# Altium footprint library Footprints.PcbLib: 39 footprints (part 1 of 3)
Each footprint in its own frame and in the unit in brackets; x right, y up, seen from the top. Pads: shape width x height; smd on the part's side, far side on the other; paste and mask are expansions set on the pad; w line width, h text height; cw(c..) or ccw(c..) is an arc to the next point about the centre after c.
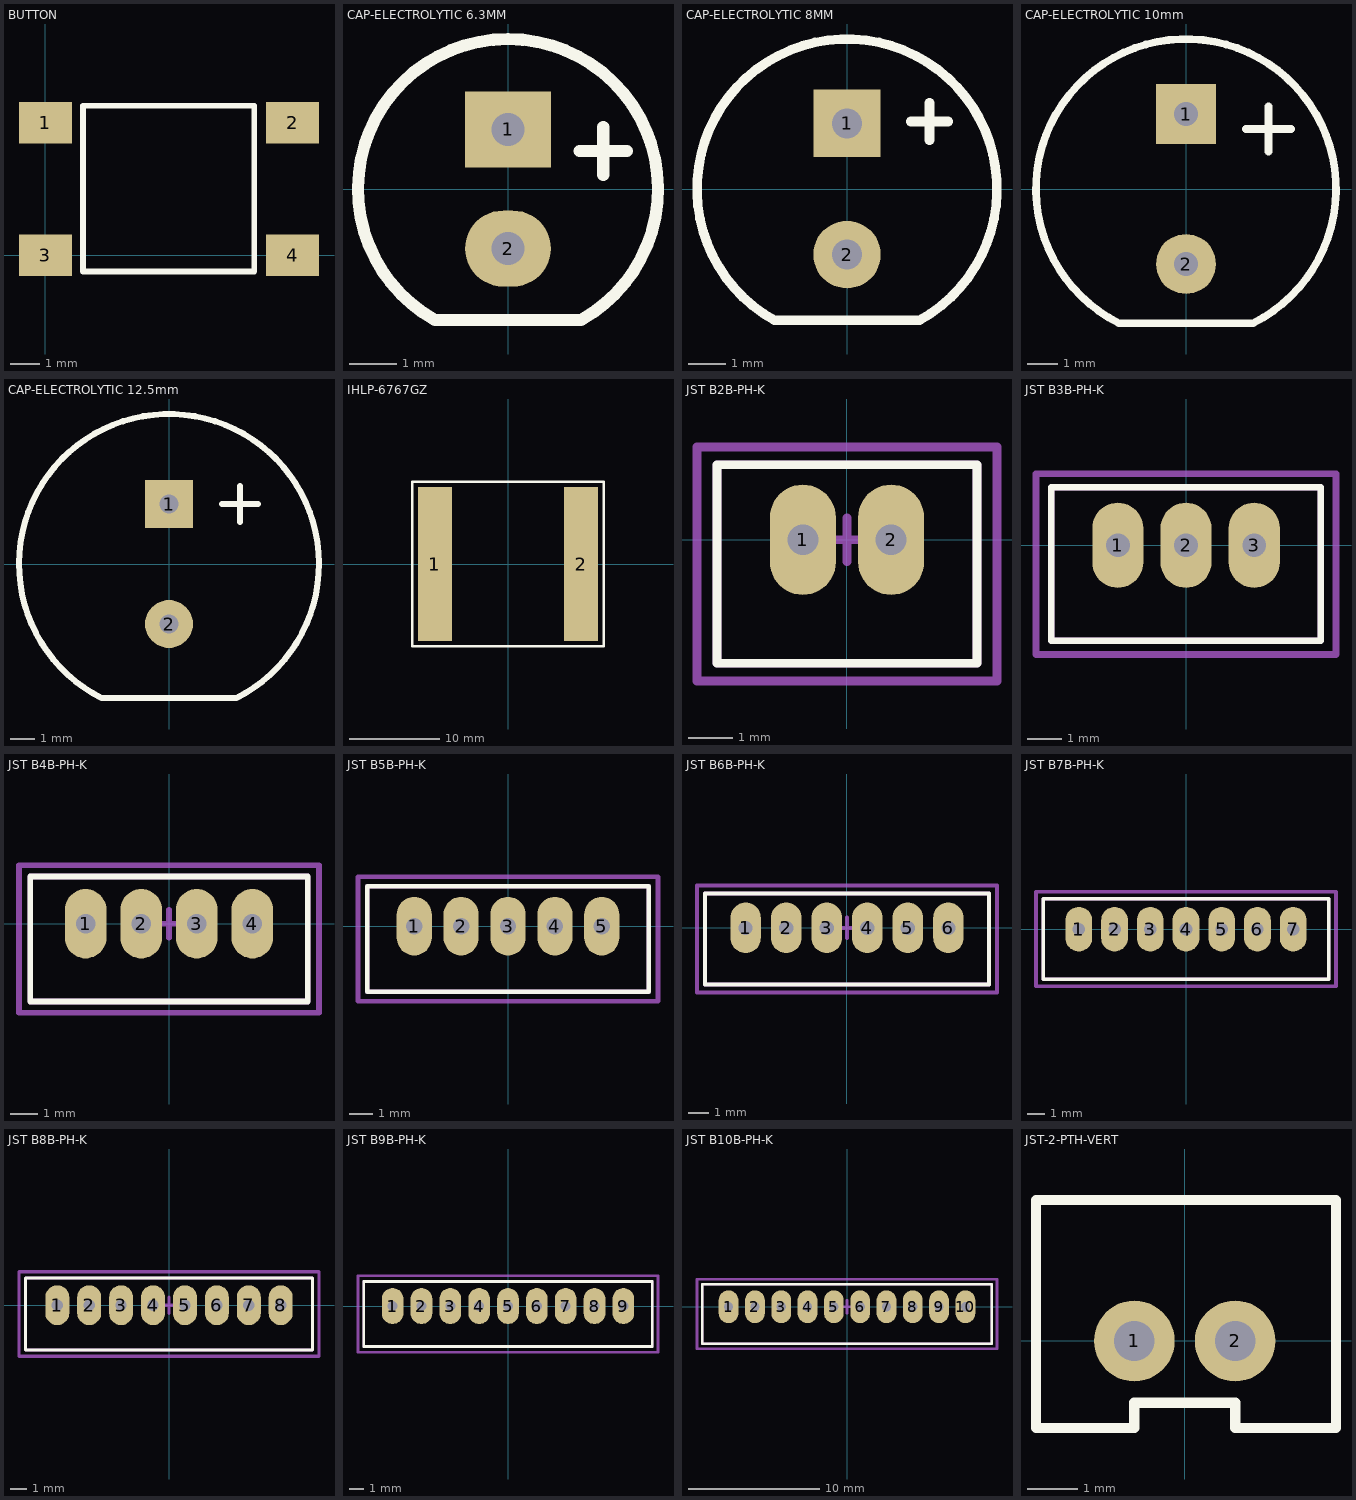
[diagram p0: the footprints below, top view; thin cyan lines are the x and y axes]

## BUTTON [mm]
pads (4):
  rect 1.8x1.4 smd: 1(0,4.5) 2(8.4,4.5) 3(0,0) 4(8.4,0)
Top Overlay:
  lines w0.2: 1.27,-0.55 1.27,5.08 7.1,5.08 7.1,-0.55 1.27,-0.55

## CAP-ELECTROLYTIC 6.3MM [mm]
height 10
pads (2):
  rect 1.8x1.6 hole 0.7: 1(0,1.25)
  oval 1.8x1.6 hole 0.7: 2(0,-1.25)
Top Overlay:
  lines w0.254: 1.5,0.8 2.5,0.8 ; 2,0.3 2,1.3 ; -1.53,-2.754 cw(c0,0) 1.53,-2.754 -1.53,-2.754

## CAP-ELECTROLYTIC 8MM [mm]
height 11.5
pads (2):
  rect 1.8x1.8 hole 0.8: 1(0,1.75)
  round 1.8 hole 0.8: 2(0,-1.75)
Top Overlay:
  lines w0.254: 1.7,1.8 2.7,1.8 ; 2.2,1.3 2.2,2.3 ; -1.943,-3.497 cw(c0,0) 1.943,-3.497 -1.943,-3.497

## CAP-ELECTROLYTIC 10mm [mm]
height 20
pads (2):
  rect 2x2 hole 0.8: 1(0,2.5)
  round 2 hole 0.8: 2(0,-2.5)
Top Overlay:
  lines w0.254: 2,2 3.5,2 ; 2.75,1.25 2.75,2.75 ; -2.236,-4.472 cw(c0,0) 2.236,-4.472 -2.236,-4.472

## CAP-ELECTROLYTIC 12.5mm [mm]
height 20
pads (2):
  rect 2x2 hole 0.8: 1(0,2.5)
  round 2 hole 0.8: 2(0,-2.5)
Top Overlay:
  lines w0.254: 2.2,2.5 3.7,2.5 ; 2.95,1.75 2.95,3.25 ; -2.795,-5.59 cw(c0,0) 2.795,-5.59 -2.795,-5.59

## IHLP-6767GZ [mil]
height 275.59
pads (2):
  rect 150x675 smd: 1(-320,0) 2(320,0)
Top Overlay:
  lines w10: -420,-360 420,-360 420,360 -420,360 -420,167.5 -420,-360
3D body: height 196.85, standoff 0, extent -330.71,-330.71 330.71,330.71

## JST B2B-PH-K [mm]
height 6
pads (2):
  oval 1.5x2.5 hole 0.7: 1(-1,0) 2(1,0)
Top Overlay:
  lines w0.2: -2.95,-2.8 2.95,-2.8 2.95,1.7 -2.95,1.7 -2.95,-2.8
Bottom Overlay:
  circle w0.254: c-2.1,1.1 r0.141
Mechanical 13:
  lines w0.2: -2.95,-2.8 -2.95,1.7 2.95,1.7 2.95,-2.8 -2.95,-2.8
Mechanical 15:
  lines w0.2: -0.5,0 0.5,0 ; 0,-0.5 0,0.5 ; -3.4,-3.2 -3.4,2.1 3.4,2.1 3.4,-3.2 -3.4,-3.2
3D body "JST B2B-PH-K-S.STEP": height 6, standoff -3.4, extent -2.95,-2.8 2.95,1.7

## JST B3B-PH-K [mm]
height 6
pads (3):
  oval 1.5x2.5 hole 0.7: 1(-2,0) 2(0,0) 3(2,0)
Top Overlay:
  lines w0.2: -3.95,-2.8 -3.95,1.7 3.95,1.7 3.95,-2.8 -3.95,-2.8
Bottom Overlay:
  circle w0.254: c-3.1,1.1 r0.141
Mechanical 13:
  lines w0.2: -3.95,-2.8 3.95,-2.8 3.95,1.7 -3.95,1.7 -3.95,-2.8
Mechanical 15:
  lines w0.2: -0.5,0 0.5,0 ; 0,-0.5 0,0.5 ; -4.4,-3.2 4.4,-3.2 4.4,2.1 -4.4,2.1 -4.4,-3.2
3D body "JST B3B-PH-K-S.STEP": height 6, standoff -3.4, extent -3.95,-2.8 3.95,1.7

## JST B4B-PH-K [mm]
height 6
pads (4):
  oval 1.5x2.5 hole 0.7: 1(-3,0) 2(-1,0) 3(1,0) 4(3,0)
Top Overlay:
  lines w0.2: -5,-2.8 -5,1.7 5,1.7 5,-2.8 -5,-2.8
Bottom Overlay:
  circle w0.254: c-4.1,1.1 r0.141
Mechanical 13:
  lines w0.2: -5,-2.8 5,-2.8 5,1.7 -5,1.7 -5,-2.8
Mechanical 15:
  lines w0.2: -0.5,0 0.5,0 ; 0,-0.5 0,0.5 ; -5.4,-3.2 5.4,-3.2 5.4,2.1 -5.4,2.1 -5.4,-3.2
3D body "JST B4B-PH-K-S.STEP": height 6, standoff -3.4, extent -4.95,-2.8 4.95,1.7

## JST B5B-PH-K [mm]
height 6
pads (5):
  oval 1.5x2.5 hole 0.7: 1(-4,0) 2(-2,0) 3(0,0) 4(2,0) 5(4,0)
Top Overlay:
  lines w0.2: -6,-2.8 -6,1.7 6,1.7 6,-2.8 -6,-2.8
Bottom Overlay:
  circle w0.254: c-5.1,1.1 r0.141
Mechanical 13:
  lines w0.2: -6,-2.8 6,-2.8 6,1.7 -6,1.7 -6,-2.8
Mechanical 15:
  lines w0.2: -0.5,0 0.5,0 ; 0,-0.5 0,0.5 ; -6.4,-3.2 6.4,-3.2 6.4,2.1 -6.4,2.1 -6.4,-3.2
3D body "JST B5B-PH-K-S.STEP": height 6, standoff -3.4, extent -5.95,-2.8 5.95,1.7

## JST B6B-PH-K [mm]
height 6
pads (6):
  oval 1.5x2.5 hole 0.7: 1(-5,0) 2(-3,0) 3(-1,0) 4(1,0) 5(3,0) 6(5,0)
Top Overlay:
  lines w0.2: -7,-2.8 7,-2.8 7,1.7 -7,1.7 -7,-2.8
Bottom Overlay:
  circle w0.254: c-6.1,1.1 r0.141
Mechanical 13:
  lines w0.2: 6.95,-2.8 -7,-2.8 -7,1.7 7,1.7 7,-2.8
Mechanical 15:
  lines w0.2: -0.5,0 0.5,0 ; 0,-0.5 0,0.5 ; -7.4,-3.2 -7.4,2.1 7.4,2.1 7.4,-3.2 -7.4,-3.2
3D body "JST B6B-PH-K-S.STEP": height 6, standoff -3.4, extent -6.95,-2.8 6.95,1.7

## JST B7B-PH-K [mm]
height 6
pads (7):
  oval 1.5x2.5 hole 0.7: 1(-6,0) 2(-4,0) 3(-2,0) 4(0,0) 5(2,0) 6(4,0) 7(6,0)
Top Overlay:
  lines w0.2: -8,-2.8 8,-2.8 8,1.7 -8,1.7 -8,-2.8
Bottom Overlay:
  circle w0.254: c-7.1,1.1 r0.141
Mechanical 13:
  lines w0.2: -8,-2.8 -8,1.7 8,1.7 8,-2.8 -8,-2.8
Mechanical 15:
  lines w0.2: -0.5,0 0.5,0 ; 0,-0.5 0,0.5 ; -8.4,-3.2 -8.4,2.1 8.4,2.1 8.4,-3.2 -8.4,-3.2
3D body "JST B7B-PH-K-S.STEP": height 6, standoff -3.4, extent -7.95,-2.8 7.95,1.7

## JST B8B-PH-K [mm]
height 6
pads (8):
  oval 1.5x2.5 hole 0.7: 1(-7,0) 2(-5,0) 3(-3,0) 4(-1,0) 5(1,0) 6(3,0) 7(5,0) 8(7,0)
Top Overlay:
  lines w0.2: -9,-2.8 9,-2.8 9,1.7 -9,1.7 -9,-2.8
Bottom Overlay:
  circle w0.254: c-8.1,1.1 r0.141
Mechanical 13:
  lines w0.2: 8.95,1.7 -9,1.7 -9,-2.8 9,-2.8 9,1.7
Mechanical 15:
  lines w0.2: -0.5,0 0.5,0 ; 0,-0.5 0,0.5 ; -9.4,-3.2 -9.4,2.1 9.4,2.1 9.4,-3.2 -9.4,-3.2
3D body "JST B8B-PH-K-S.STEP": height 6, standoff -3.4, extent -8.95,-2.8 8.95,1.7

## JST B9B-PH-K [mm]
height 6
pads (9):
  oval 1.5x2.5 hole 0.7: 1(-8,0) 2(-6,0) 3(-4,0) 4(-2,0) 5(0,0) 6(2,0) 7(4,0) 8(6,0) 9(8,0)
Top Overlay:
  lines w0.2: -10,-2.8 -10,1.7 10,1.7 10,-2.8 -10,-2.8
Bottom Overlay:
  circle w0.254: c-9.1,1.1 r0.141
Mechanical 13:
  lines w0.2: -10,-2.8 10,-2.8 10,1.7 -10,1.7 -10,-2.8
Mechanical 15:
  lines w0.2: -0.5,0 0.5,0 ; 0,-0.5 0,0.5 ; -10.4,-3.2 10.4,-3.2 10.4,2.1 -10.4,2.1 -10.4,-3.2
3D body "JST B9B-PH-K-S.STEP": height 6, standoff -3.4, extent -9.95,-2.8 9.95,1.7

## JST B10B-PH-K [mm]
height 6
pads (10):
  oval 1.5x2.5 hole 0.7: 1(-9,0) 2(-7,0) 3(-5,0) 4(-3,0) 5(-1,0) 6(1,0) 7(3,0) 8(5,0) 9(7,0) 10(9,0)
Top Overlay:
  lines w0.2: -11,-2.8 11,-2.8 11,1.7 -11,1.7 -11,-2.8
Bottom Overlay:
  circle w0.254: c-10.1,1.1 r0.141
Mechanical 13:
  lines w0.2: 10.95,-2.8 -11,-2.8 -11,1.7 11,1.7 11,-2.8
Mechanical 15:
  lines w0.2: -0.5,0 0.5,0 ; 0,-0.5 0,0.5 ; -11.4,-3.2 -11.4,2.1 11.4,2.1 11.4,-3.2 -11.4,-3.2
3D body "JST B10B-PH-K-S.STEP": height 6, standoff -3.4, extent -10.95,-2.8 10.95,1.7

## JST-2-PTH-VERT [mm]
pads (2):
  round 1.6 hole 0.8: 1(-1,0) 2(1,0)
Top Overlay:
  lines w0.203: -2.95,-1.723 -2.95,2.794 3,2.794 3,-1.723 1,-1.723 1,-1.223 -1,-1.223 -1,-1.723 -2.95,-1.723
3D body "B2B-PH-K-S.STEP": height 6, standoff -3.4, extent -2.892,-1.622 3.008,2.878